# Altium schematic symbol library FERRITE,50R@100MHz,12A,1206.Schlib: 1 symbol
Pins are listed as number, name and electrical type; pins without a type are passive.

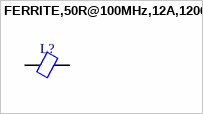
[diagram p0: symbol FERRITE,50R@100MHz,12A,1206]

## FERRITE,50R@100MHz,12A,1206
designator L?
pins: 1, 2